# Altium schematic symbol library SCH - POWER - LINEAR VREG - DIODES INC AP2114HA.SchLib: 1 symbol
Pins are listed as number, name and electrical type; pins without a type are passive.

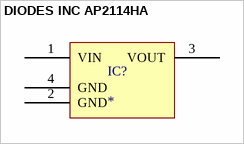
[diagram p0: symbol DIODES INC AP2114HA]

## DIODES INC AP2114HA
designator IC?
pins: 1 VIN, 2 GND, 3 VOUT, 4 GND